# Altium schematic symbol library knowles_SPU_mic.Schlib: 1 symbol
Pins are listed as number, name and electrical type; pins without a type are passive.

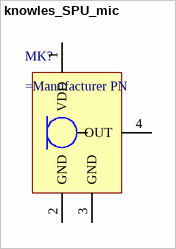
[diagram p0: symbol knowles_SPU_mic]

## knowles_SPU_mic
designator MK?
MEMs microphone, buffered output
pins: 1 VDD, 2 GND, 3 GND, 4 OUT